# EAGLE library part LCD_DEVBOARD (library SD-SolderSync)
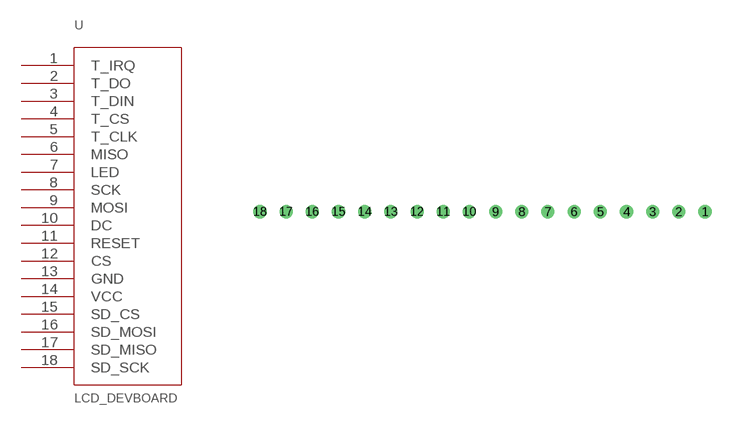
[diagram p3: symbol with the pads of LCD_SCH; footprint LCD_SCH]

Designator prefix -

## LCD_DEVBOARD  [LCD_SCH]
1  T_IRQ  pas
2  T_DO  pas
3  T_DIN  pas
4  T_CS  pas
5  T_CLK  pas
6  MISO  pas
7  LED  pas
8  SCK  pas
9  MOSI  pas
10  DC  pas
11  RESET  pas
12  CS  pas
13  GND  pas
14  VCC  pas
15  SD_CS  pas
16  SD_MOSI  pas
17  SD_MISO  pas
18  SD_SCK  pas

## Footprint LCD_SCH (pad centres in mm)
drill 0.127 pad 0.254: 1 21.59,0; 2 20.32,0; 3 19.05,0; 4 17.78,0; 5 16.51,0; 6 15.24,0; 7 13.97,0; 8 12.7,0; 9 11.43,0; 10 10.16,0; 11 8.89,0; 12 7.62,0; 13 6.35,0; 14 5.08,0; 15 3.81,0; 16 2.54,0; 17 1.27,0; 18 0,0